# Altium integrated library ESP8266.IntLib: 1 symbol
Pins are listed as number, name and electrical type; pins without a type are passive.

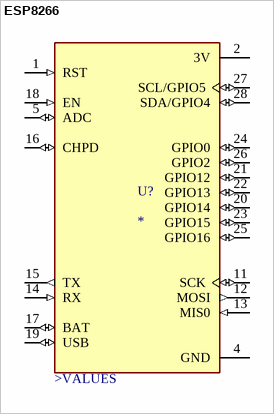
[diagram p0: symbol ESP8266]

## ESP8266
designator U?
ESP8266, ESP-WROOM-02U series Transceiver; 802.11 b/g/n (Wi-Fi, WiFi, WLAN) Evaluation Board; MF: Espressif Systems; Value: *; SnapEDA_Link: https://www.snapeda.com/parts/ESP8266/Espressif+Systems/view-part/?ref=snap; MP: ESP8266; Purchase-URL: https://pricing.snapeda.com/search/part/ESP8266/?ref=eda; Check_prices: https://www.snapeda.com/parts/ESP8266/Espressif+Systems/view-part/?ref=eda; Availability: In Stock; Price: None; Package: None
footprint XCVR_ESP8266
pins: 1 RST (in), 2 3V (power), 4 GND (power), 5 ADC (io), 11 SCK (io), 12 MOSI (out), 13 MIS0 (in), 14 RX (in), 15 TX (out), 16 CHPD (io), 17 BAT (io), 18 EN (in), 19 USB (io), 20 GPIO14 (io), 21 GPIO12 (io), 22 GPIO13 (io), 23 GPIO15 (io), 24 GPIO0 (io), 25 GPIO16 (io), 26 GPIO2 (io), 27 SCL/GPIO5 (io), 28 SDA/GPIO4 (io)
text: >VALUES